# EAGLE library part 6437288-5 (library 6437288-5)
Body Features: Primary Product Color Black | Configuration Features: Number of Signal Positions 60 | Number of Rows 4 | Number of Positions 60 | PCB Mount Orientation Horizontal | Number of Sections 2 | Contact Features: Contact Mating Area Plating Material Gold | Mating Pin Diameter .039 INCH | Mating Pin Diameter 1 MM | Contact Size 1mm | Contact Type Pin | Dimensions: Connector Width 78 MM | Connector Length 1.437 INCH | Profile Height from PCB 27.9 MM | Connector Width 3.071 INCH | Profile Height from P Source: Datasheet <https://www.te.com/commerce/DocumentDelivery/DDEController?Action=srchrtrv&DocNm=1-1773950-7&DocType=Data Sheet&DocLang=English&PartCntxt=6437288-5&DocFormat=pdf>
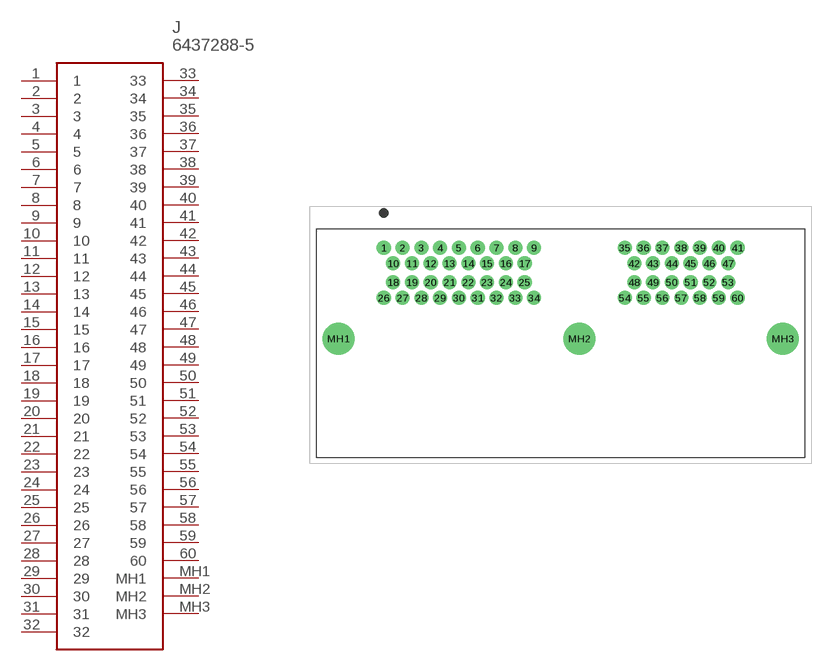
[diagram p0: symbol with the pads of 64372885; footprint 64372885]

Designator prefix J

## 6437288-5 (Description: Body Features: Primary Product Color Black | Configuration Features: Number of Signal Positions 60 | Number of Rows 4 | Number of Positions 60 | PCB Mount Orientation Horizontal | Number of Sections 2 | Contact Features: Contact Mating Area Plating Material Gold | Mating Pin Diameter .039 INCH | Mating Pin Diameter 1 MM | Contact Size 1mm | Contact Type Pin | Dimensions: Connector Width 78 MM | Connector Length 1.437 INCH | Profile Height from PCB 27.9 MM | Connector Width 3.071 INCH | Profile Height from P; Height: 27.9mm; Manufacturer_Name: TE Connectivity; Manufacturer_Part_Number: 6437288-5; Mouser_Part_Number: 571-6437288-5; Mouser_Price-Stock: https://www.mouser.co.uk/ProductDetail/TE-Connectivity/6437288-5?qs=%252BJ%252BJwDEtia05lDPtXdOuzw%3D%3D)  [64372885]
1  1
2  2
3  3
4  4
5  5
6  6
7  7
8  8
9  9
10  10
11  11
12  12
13  13
14  14
15  15
16  16
17  17
18  18
19  19
20  20
21  21
22  22
23  23
24  24
25  25
26  26
27  27
28  28
29  29
30  30
31  31
32  32
33  33
34  34
35  35
36  36
37  37
38  38
39  39
40  40
41  41
42  42
43  43
44  44
45  45
46  46
47  47
48  48
49  49
50  50
51  51
52  52
53  53
54  54
55  55
56  56
57  57
58  58
59  59
60  60
MH1  MH1
MH2  MH2
MH3  MH3

## Footprint 64372885 (pad centres in mm)
6437288-5-1
drill 1.5 pad 2.25: 1 0,0; 2 3,0; 3 6,0; 4 9,0; 5 12,0; 6 15,0; 7 18,0; 8 21,0; 9 24,0; 10 1.5,-2.5; 11 4.5,-2.5; 12 7.5,-2.5; 13 10.5,-2.5; 14 13.5,-2.5; 15 16.5,-2.5; 16 19.5,-2.5; 17 22.5,-2.5; 18 1.5,-5.5; 19 4.5,-5.5; 20 7.5,-5.5; 21 10.5,-5.5; 22 13.5,-5.5; 23 16.5,-5.5; 24 19.5,-5.5; 25 22.5,-5.5; 26 0,-8; 27 3,-8; 28 6,-8; 29 9,-8; 30 12,-8; 31 15,-8; 32 18,-8; 33 21,-8; 34 24,-8; 35 38.5,0; 36 41.5,0; 37 44.5,0; 38 47.5,0; 39 50.5,0; 40 53.5,0; 41 56.5,0; 42 40,-2.5; 43 43,-2.5; 44 46,-2.5; 45 49,-2.5; 46 52,-2.5; 47 55,-2.5; 48 40,-5.5; 49 43,-5.5; 50 46,-5.5; 51 49,-5.5; 52 52,-5.5; 53 55,-5.5; 54 38.5,-8; 55 41.5,-8; 56 44.5,-8; 57 47.5,-8; 58 50.5,-8; 59 53.5,-8; 60 56.5,-8
drill 3.4 pad 5.1: MH1 -7.25,-14.5; MH2 31.25,-14.5; MH3 63.75,-14.5